# Altium integrated library Capacitor.IntLib: 342 symbols (part 1 of 2)
Pins are listed as number, name and electrical type; pins without a type are passive.

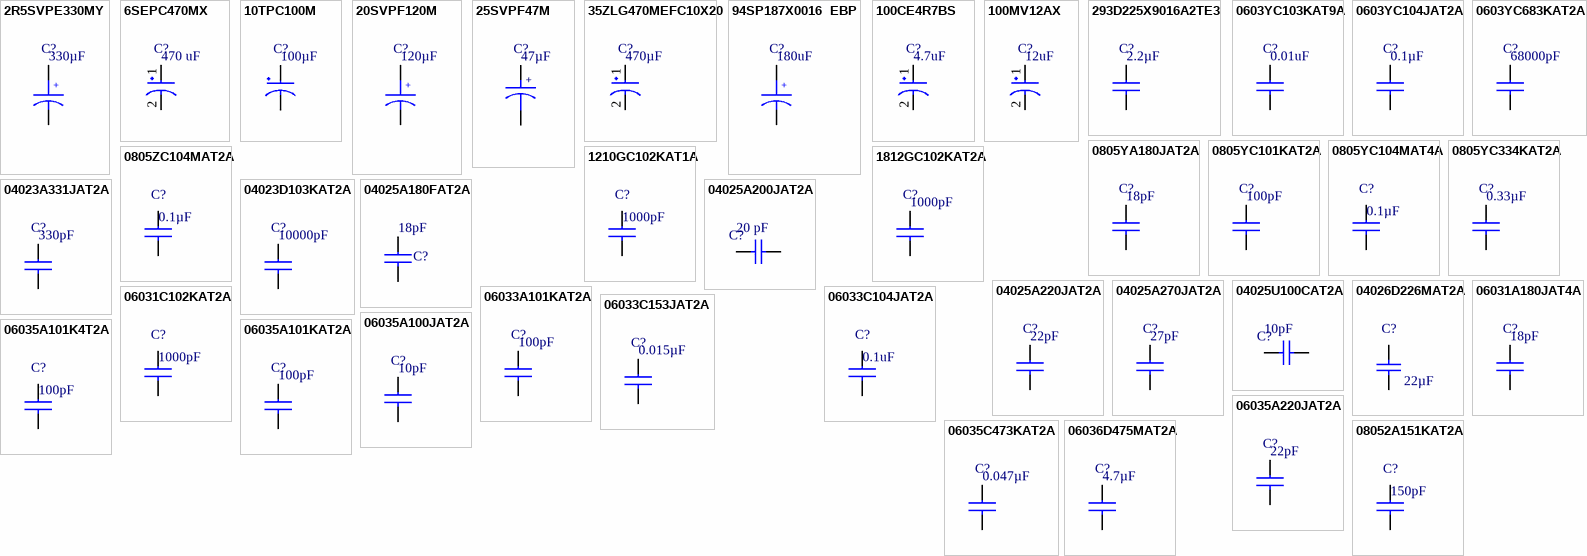
[diagram p0: symbols 2R5SVPE330MY to 08052A151KAT2A]

## 2R5SVPE330MY
designator C?  value 330µF  (hidden comment: *)
CAP POLYMER 330UF 20% 2.5V SMD; MPN: 2R5SVPE330MY; MFT: Panasonic Electronic Components; RATING: ±20%, 2.5V; TYPE: Surface Mount
footprint 2R5SVPE330MY
pins: 1, 2
text: +

## 6SEPC470MX
designator C?  value 470 uF  (hidden comment: *)
CAP POLYMER 470UF 20% 6.3V T/H; MPN: 6SEPC470MX; MFT: Panasonic; TYPE: Through-Hole; RATING: 6.3V
footprint 6SEPC470MX
pins: 1, 2

## 10TPC100M
designator C?  value 100µF  (hidden comment: *)
CAP TANT POLY 100UF 10V 2917; MPN: 10TPC100M; MFT: Panasonic Electronic Components; TYPE: Surface Mount; RATING: 10V
footprint C2917 (7343 Metric)
pins: 1, 2

## 20SVPF120M
designator C?  value 120µF  (hidden comment: *)
CAP POLYMER 120UF 20% 20V SMD; MPN: 20SVPF120M; MFT: Panasonic Electronic Components; RATING: ±20%, 20V; TYPE: Surface Mount
footprint 20SVPF120M
pins: 1, 2
text: +

## 25SVPF47M
designator C?  value 47µF  (hidden comment: *)
CAP POLYMER 47UF 20% 25V SMD; MPN: 25SVPF47M; MFT: Panasonic Electronic Components; TYPE: Surface Mount; RATING: 25V
footprint 25SVPF47M
pins: 1, 2
text: +

## 35ZLG470MEFC10X20
designator C?  value 470µF  (hidden comment: *)
CAP ALUM 470UF 20% 35V RADIAL; MPN: 35ZLG470MEFC10X20; MFT: Rubycon; TYPE: Through Hole; RATING: 35V
footprint 35ZLG470MEFC10X20
pins: 1, 2

## 94SP187X0016  EBP
designator C?  value 180uF  (hidden comment: *)
CAP, Oscon, 180uF, 16V; MPN: 94SP187X0016; MFT: Vishay; TYPE: Through-Hole; RATING: 16V
footprint 94SP187X0016  EBP
pins: 1, 2
text: +

## 100CE4R7BS
designator C?  value 4.7uF  (hidden comment: *)
CAP, 4.7uF 20% 100V ELEC; MPN: 100CE4R7BS; MFT: SANYO; TYPE: Surface Mount; RATING: 100V
footprint 100CE4R7BS
pins: 1, 2

## 100MV12AX
designator C?  value 12uF  (hidden comment: *)
Electrolytic100.0 V,12.0 µF,Electrolytic,Radial,105.0°C,6.3x11mm,; MPN: 100MV12AX; MFT: SANYO; RATING: 100V; TYPE: TH
footprint 100MV12AX
pins: 1, 2

## 293D225X9016A2TE3
designator C?  value 2.2µF  (hidden comment: *)
CAP TANT 2.2UF 16V 10% 1206; MPN: 293D225X9016A2TE3; TYPE: Surface Mount; MFT: Vishay Sprague; RATING: 16V
footprint C1206
pins: 1, 2

## 0603YC103KAT9A
designator C?  value 0.01uF  (hidden comment: *)
CAP CER 10000PF 16V X7R 0603; MPN: 0603YC103KAT9A; MFT: AVX Corporation; RATING: ±10%, 16V; TYPE: Surface Mount, MLCC
footprint C0603
pins: 1, 2

## 0603YC104JAT2A
designator C?  value 0.1µF  (hidden comment: *)
CAP CER 0.1UF 16V 5% X7R 0603; MPN: 0603YC104JAT2A; MFT: AVX Corporation; TYPE: Surface Mount, MLCC; RATING: 16V
footprint C0603
pins: 1, 2

## 0603YC683KAT2A
designator C?  value 68000pF  (hidden comment: *)
CAP CER 0.068UF 16V X7R 0603; MPN: 0603YC683KAT2A; MFT: AVX Corporation; RATING: 16V, ±10%; TYPE: Surface Mount, MLCC
footprint C0603
pins: 1, 2

## 0805YA180JAT2A
designator C?  value 18pF  (hidden comment: *)
CAP CER 18PF 16V 5% NP0 0805; MPN: 0805YA180JAT2A; MFT: AVX Corporation; TYPE: Surface Mount, MLCC; RATING: 16V 5% NP0
footprint C0805
pins: 1, 2

## 0805YC101KAT2A
designator C?  value 100pF  (hidden comment: *)
CAP CER 100PF 16V 10% X7R 0805; MPN: 0805YC101KAT2A; MFT: AVX Corporation; TYPE: Surface Mount, MLCC; RATING: 16V 10%
footprint C0805
pins: 1, 2

## 0805YC104MAT4A
designator C?  value 0.1µF  (hidden comment: *)
CAP CER 0.1UF 16V X7R 0805; MPN: 0805YC104MAT4A; MFT: AVX Corporation; TYPE: SMD; RATING: 16V; LOAD: *
footprint C0805
pins: 1, 2

## 0805YC334KAT2A
designator C?  value 0.33µF  (hidden comment: *)
CAP CER 0.33UF 16V 10% X7R 0805; MPN: 0805YC334KAT2A; MFT: AVX Corporation; TYPE: Surface Mount, MLCC; RATING: 16V 10% X7R
footprint C0805
pins: 1, 2

## 0805ZC104MAT2A
designator C?  value 0.1µF  (hidden comment: *)
CAP CER 0.1UF 10V X7R 0805; MPN: 0805ZC104MAT2A; MFT: AVX Corporation; TYPE: SMD; RATING: 10V; LOAD: *
footprint C0805
pins: 1, 2

## 1210GC102KAT1A
designator C?  value 1000pF  (hidden comment: *)
CAP CER 1000PF 2KV X7R 1210; MPN: 1210GC102KAT1A; MFT: AVX Corporation; TYPE: SMD; RATING: 2KV; LOAD: *
footprint C1210
pins: 1, 2

## 1812GC102KAT2A
designator C?  value 1000pF  (hidden comment: *)
CAP CER 1000PF 2KV X7R 1812; MPN: 1812GC102KAT2A; MFT: AVX Corporation; RATING: 2000V; TYPE: Surface Mount, MLCC
footprint C1812
pins: 1, 2

## 04023A331JAT2A
designator C?  value 330pF  (hidden comment: *)
CAP CER 330PF 25V NP0 0402; MPN: 04023A331JAT2A; MFT: AVX Corporation; TYPE: Surface Mount, MLCC; RATING: 25V
footprint C0402
pins: 1, 2

## 04023D103KAT2A
designator C?  value 10000pF  (hidden comment: *)
CAP CER 10000PF 25V X5R 0402; MPN: 04023D103KAT2A; MFT: AVX Corporation; TYPE: Surface Mount, MLCC; RATING: 25V
footprint C0402
pins: 1, 2

## 04025A180FAT2A
designator C?  value 18pF  (hidden comment: 04025A180FAT2A)
CAP CER 18PF 50V 1% NP0 0402; MFT: AVX Corporation; TYPE: Surface Mount, MLCC; MPN: 04025A180FAT2A; RATING: 50V
footprint C0402
pins: 1, 2

## 04025A200JAT2A
designator C?  value 20 pF  (hidden comment: *)
Multilayer Ceramic Capacitors MLCC - SMD/SMT 0402 20pF 50volts C0G 5%; MPN: 04025A200JAT2A; MFT: AVX; TYPE: Commercial Surface Mount Chip; RATING: 50volts 5%
footprint C0402
pins: 1, 2

## 04025A220JAT2A
designator C?  value 22pF  (hidden comment: *)
CAP CER 22PF 50V NP0 0402; MPN: 04025A220JAT2A; MFT: AVX Corporation; RATING: 50V, ±5%; TYPE: Surface Mount, MLCC
footprint C0402
pins: 1, 2

## 04025A270JAT2A
designator C?  value 27pF  (hidden comment: *)
CAP CER 27PF 50V NP0 0402; MPN: 04025A270JAT2A; MFT: AVX Corporation; RATING: ±5%, 50V; TYPE: Surface Mount, MLCC
footprint C0402
pins: 1, 2

## 04025U100CAT2A
designator C?  value 10pF  (hidden comment: *)
CAP CER 10PF 50V NP0 0402; MPN: 04025U100CAT2A; MFT: AVX Corporation; TYPE: Surface Mount, MLCC; RATING: 50V
footprint C0402
pins: 1, 2

## 04026D226MAT2A
designator C?  value 22µF  (hidden comment: *)
CAP CER 22UF 6.3V X5R 0402; MPN: 04026D226MAT2A; MFT: AVX Corporation; TYPE: Surface Mount, MLCC; RATING: 6.3V
footprint C0402
pins: 1, 2

## 06031A180JAT4A
designator C?  value 18pF  (hidden comment: *)
CAP CER 18PF 100V NP0 0603; MPN: 06031A180JAT4A; MFT: AVX Corporation; RATING: ±5%, 100V; TYPE: Surface Mount, MLCC
footprint C0603
pins: 1, 2

## 06031C102KAT2A
designator C?  value 1000pF  (hidden comment: *)
CAP CER 1000PF 100V X7R 0603; MPN: 06031C102KAT2A; MFT: AVX Corporation; TYPE: SMD; RATING: 100V; LOAD: *
footprint C0603
pins: 1, 2

## 06033A101KAT2A
designator C?  value 100pF  (hidden comment: *)
CAP CER 100PF 25V 10% NP0 0603; MPN: 06033A101KAT2A; MFT: AVX Corporation; TYPE: Surface Mount, MLCC; RATING: 25V
footprint C0603
pins: 1, 2

## 06033C104JAT2A
designator C?  value 0.1uF  (hidden comment: *)
CAP CER 0.1UF 25V X7R 0603; MPN: 06033C104JAT2A; MFT: Kyocera AVX; TYPE: SMD; RATING: 25V; LOAD: *
footprint C0603
pins: 1, 2

## 06033C153JAT2A
designator C?  value 0.015µF  (hidden comment: *)
CAP CER 0.015UF 25V X7R 0603; MPN: 06033C153JAT2A; MFT: AVX; TYPE: Surface Mount, MLCC; RATING: 25V
footprint C0603
pins: 1, 2

## 06035A100JAT2A
designator C?  value 10pF  (hidden comment: *)
CAP CER 10PF 50V 5% NP0 0603; MPN: 06035A100JAT2A; MFT: AVX Corporation; TYPE: Surface Mount, MLCC; RATING: 50V
footprint C0603
pins: 1, 2

## 06035A101K4T2A
designator C?  value 100pF  (hidden comment: *)
CAP CER 100PF 50V NP0 0603; MPN: 06035A101K4T2A; MFT: AVX Corporation; TYPE: SMD; RATING: 50V; LOAD: *
footprint C0603
pins: 1, 2

## 06035A101KAT2A
designator C?  value 100pF  (hidden comment: *)
CAP CER 100PF 50V NP0 0603; MPN: 06035A101KAT2A; MFT: AVX Corporation; RATING: ±10%, 50V; TYPE: Surface Mount, MLCC
footprint C0603
pins: 1, 2

## 06035A220JAT2A
designator C?  value 22pF  (hidden comment: *)
CAP CER 22PF 50V NP0 0603; MPN: 06035A220JAT2A; MFT: AVX Corporation; TYPE: Surface Mount, MLCC; RATING: 50V
footprint C0603
pins: 1, 2

## 06035C473KAT2A
designator C?  value 0.047µF  (hidden comment: *)
CAP CER 0.047UF 50V X7R 0603; MPN: 06035C473KAT2A; MFT: AVX Corporation; RATING: ±10%, 50V; TYPE: Surface Mount
footprint C0603
pins: 1, 2

## 06036D475MAT2A
designator C?  value 4.7µF  (hidden comment: *)
CAP CER 4.7UF 6.3V X5R 0603; MPN: 06036D475MAT2A; MFT: AVX Corporation; RATING: ±20%, 6.3V; TYPE: Surface Mount, MLCC
footprint C0603
pins: 1, 2

## 08052A151KAT2A
designator C?  value 150pF  (hidden comment: *)
CAP CER 150PF 200V NP0 0805; MPN: 08052A151KAT2A; MFT: AVX Corporation; TYPE: SMD; RATING: 200V; LOAD: *
footprint C0805
pins: 1, 2

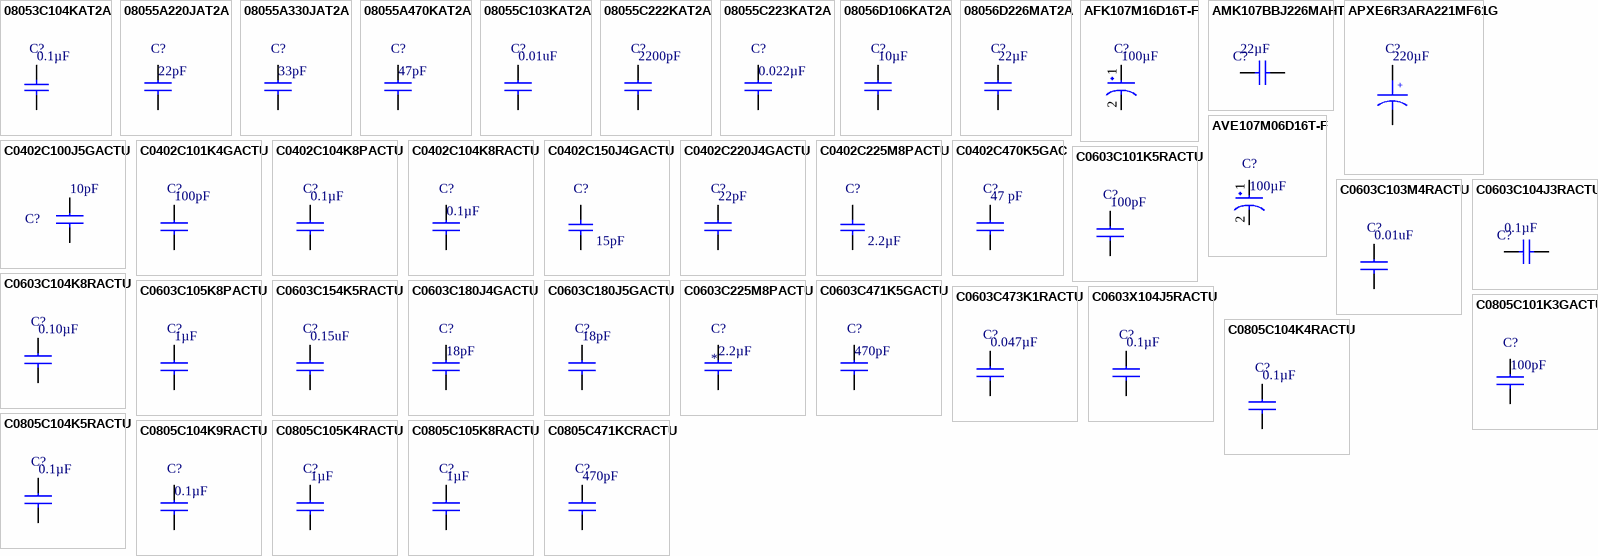
[diagram p1: symbols 08053C104KAT2A to C0805C471KCRACTU]

## 08053C104KAT2A
designator C?  value 0.1µF  (hidden comment: *)
CAP CER 0.1UF 25V X7R 0805; MPN: 08053C104KAT2A; MFT: AVX Corporation; RATING: ±10%, 25V; TYPE: Surface Mount, MLCC
footprint C0805
pins: 1, 2

## 08055A220JAT2A
designator C?  value 22pF  (hidden comment: *)
CAP CER 22PF 50V C0G/NP0 0805; MPN: 08055A220JAT2A; MFT: Kyocera AVX; TYPE: SMD; LOAD: *; RATING: 50V
footprint C0805
pins: 1, 2

## 08055A330JAT2A
designator C?  value 33pF  (hidden comment: *)
CAP CER 33PF 50V C0G/NP0 0805; MPN: 08055A330JAT2A; MFT: Kyocera AVX; TYPE: SMD; LOAD: *; RATING: 50V
footprint C0805
pins: 1, 2

## 08055A470KAT2A
designator C?  value 47pF  (hidden comment: *)
CAP CER 47PF 50V NP0 0805; MPN: 08055A470KAT2A; MFT: AVX Corporation; TYPE: SMD; RATING: 50V; LOAD: *
footprint C0805
pins: 1, 2

## 08055C103KAT2A
designator C?  value 0.01uF  (hidden comment: *)
CAP CER 10000PF 50V X7R 0805; MPN: 08055C103KAT2A; MFT: AVX Corporation; RATING: ±10%, 50V; TYPE: Surface Mount, MLCC
footprint C0805
pins: 1, 2

## 08055C222KAT2A
designator C?  value 2200pF  (hidden comment: *)
CAP CER 2200PF 50V 10% X7R 0805; MPN: 08055C222KAT2A; MFT: AVX Corporation; TYPE: Surface Mount, MLCC; RATING: 50V 10% X7R
footprint C0805
pins: 1, 2

## 08055C223KAT2A
designator C?  value 0.022µF  (hidden comment: *)
CAP CER 0.022UF 50V X7R 0805; MPN: 08055C223KAT2A; MFT: AVX Corporation; TYPE: SMD; RATING: 50V; LOAD: *
footprint C0805
pins: 1, 2

## 08056D106KAT2A
designator C?  value 10µF  (hidden comment: *)
CAP CER 10UF 6.3V X5R 0805; MPN: 08056D106KAT2A; MFT: AVX Corporation; RATING: ±10%, 6.3V; TYPE: Surface Mount, MLCC
footprint C0805
pins: 1, 2

## 08056D226MAT2A
designator C?  value 22µF  (hidden comment: *)
CAP CER 22UF 6.3V X5R 0805; MPN: 08056D226MAT2A; MFT: AVX Corporation; RATING: ±20%, 6.3V; TYPE: Surface Mount, MLCC
footprint C0805
pins: 1, 2

## AFK107M16D16T-F
designator C?  value 100µF  (hidden comment: *)
CAP ALUM 100UF 20% 16V SMD; MPN: AFK107M16D16T-F; TYPE: Surface Mount; MFT: Cornell Dubilier Electronics (CDE); RATING: 16V
footprint AFK107M16D16T-F
pins: 1, 2

## AMK107BBJ226MAHT
designator C?  value 22µF  (hidden comment: *)
CAP CER 22UF 4V 20% X5R 0603; MPN: AMK107BBJ226MAHT; MFT: Taiyo Yuden; TYPE: Surface Mount, MLCC; RATING: 4V
footprint C0603
pins: 1, 2

## APXE6R3ARA221MF61G
designator C?  value 220µF  (hidden comment: *)
CAP POLYMER 220UF 20% 6.3V SMD; MPN: APXE6R3ARA221MF61G; MFT: United Chemi-Con; RATING: ±20%, 6.3V; TYPE: Surface Mount
footprint APXE6R3ARA221MF61G
pins: 1, 2
text: +

## AVE107M06D16T-F
designator C?  value 100µF  (hidden comment: *)
CAP ALUM 100UF 20% 6.3V SMD; MPN: AVE107M06D16T-F; MFT: Cornell Dubilier Electronics (CDE); TYPE: SMD; RATING: 20% 6.3V; LOAD: *
footprint AVE107M06D16T-F
pins: 1, 2

## C0402C100J5GACTU
designator C?  value 10pF  (hidden comment: C0402C100J5GACTU)
CAP CER 10PF 50V 5% NP0 0402; MFT: Kemet; TYPE: Surface Mount, MLCC; MPN: C0402C100J5GACTU; RATING: 50V
footprint C0402
pins: 1, 2

## C0402C101K4GACTU
designator C?  value 100pF  (hidden comment: *)
CAP CER 100PF 16V 10% NP0 0402; MPN: C0402C101K4GACTU; MFT: Kemet; TYPE: Surface Mount, MLCC; RATING: 16V 10%
footprint C0402
pins: 1, 2

## C0402C104K8PACTU
designator C?  value 0.1µF  (hidden comment: *)
CAP CER 0.1UF 10V X5R 0402; MPN: C0402C104K8PACTU; MFT: Kemet; RATING: ±10%, 10V; TYPE: Surface Mount, MLCC
footprint C0402
pins: 1, 2

## C0402C104K8RACTU
designator C?  value 0.1µF  (hidden comment: *)
CAP CER 0.1UF 10V X7R 0402; MPN: C0402C104K8RACTU; MFT: KEMET; TYPE: SMD; LOAD: *; RATING: 10V
footprint C0402
pins: 1, 2

## C0402C150J4GACTU
designator C?  value 15pF  (hidden comment: *)
CAP CER 15PF 16V NP0 0402; MPN: C0402C150J4GACTU; MFT: Kemet; TYPE: Surface Mount; RATING: 16V; LOAD: *
footprint C0402
pins: 1, 2

## C0402C220J4GACTU
designator C?  value 22pF  (hidden comment: *)
CAP CER 22PF 16V 5% NP0 0402; MPN: C0402C220J4GACTU; MFT: Kemet; TYPE: Surface Mount, MLCC; RATING: 16V
footprint C0402
pins: 1, 2

## C0402C225M8PACTU
designator C?  value 2.2µF  (hidden comment: *)
CAP CER 2.2UF 10V 20% X5R 0402; MPN: C0402C225M8PACTU; MFT: Kemet; TYPE: Surface Mount; RATING: 10V
footprint C0402
pins: 1, 2

## C0402C470K5GAC
designator C?  value 47 pF  (hidden comment: *)
Multilayer Ceramic Capacitors MLCC - SMD/SMT 50volts 47pF 10% C0G; MPN: C0402C470K5GAC; MFT: Kemet; TYPE: Surface Mount; RATING: 50V
footprint C0402
pins: 1, 2

## C0603C101K5RACTU
designator C?  value 100pF  (hidden comment: *)
CAP CER 100PF 50V X7R 0603; MPN: C0603C101K5RACTU; MFT: Kemet; TYPE: Surface Mount, MLCC; RATING: 50V
footprint C0603
pins: 1, 2

## C0603C103M4RACTU
designator C?  value 0.01uF  (hidden comment: *)
CAP CER 10000PF 16V X7R 0603; MPN: C0603C103M4RACTU; MFT: Kemet; RATING: 16V, ±20%; TYPE: Surface Mount, MLCC
footprint C0603
pins: 1, 2

## C0603C104J3RACTU
designator C?  value 0.1µF  (hidden comment: *)
CAP CER 0.1UF 25V 5% X7R 0603; MPN: C0603C104J3RACTU; MFT: Kemet; TYPE: Surface Mount, MLCC; RATING: 25V
footprint C0603
pins: 1, 2

## C0603C104K8RACTU
designator C?  value 0.10µF  (hidden comment: *)
CAP CER 0.1UF 10V X7R 0603; MPN: C0603C104K8RACTU; MFT: Kemet; TYPE: Surface Mount, MLCC; RATING: 10V
footprint C0603
pins: 1, 2

## C0603C105K8PACTU
designator C?  value 1µF  (hidden comment: *)
CAP CER 1UF 10V X5R 0603; MPN: C0603C105K8PACTU; MFT: Kemet; RATING: ±10%, 10V; TYPE: Surface Mount, MLCC
footprint C0603
pins: 1, 2

## C0603C154K5RACTU
designator C?  value 0.15uF  (hidden comment: *)
Multilayer Ceramic Capacitors MLCC - SMD/SMT 50volts 0.15uF X7R 10%; MPN: C0603C154K5RACTU; MFT: Kemet; RATING: 10%, 50V; TYPE: Surface Mount
footprint C0603
pins: 1, 2

## C0603C180J4GACTU
designator C?  value 18pF  (hidden comment: *)
CAP CER 18PF 16V 5% NP0 0603; MPN: C0603C180J4GACTU; MFT: Kemet; RATING: 16V 5%; TYPE: SMD; LOAD: *
footprint C0603
pins: 1, 2

## C0603C180J5GACTU
designator C?  value 18pF  (hidden comment: *)
CAP CER 18PF 50V NP0 0603; MPN: C0603C180J5GACTU; MFT: Kemet; RATING: ±5%, 50V; TYPE: Surface Mount, MLCC
footprint C0603
pins: 1, 2

## C0603C225M8PACTU
designator C?  value 2.2µF
CAP CER 2.2UF 10V X5R 0603; MPN: C0603C225M8PACTU; MFT: Kemet; TYPE: Surface Mount; RATING: 10V
footprint C0603
pins: 1, 2

## C0603C471K5GACTU
designator C?  value 470pF  (hidden comment: *)
CAP CER 470PF 50V NP0 0603; MPN: C0603C471K5GACTU; MFT: Kemet; TYPE: SMD; RATING: 50V; LOAD: *
footprint C0603
pins: 1, 2

## C0603C473K1RACTU
designator C?  value 0.047µF  (hidden comment: *)
CAP CER 0.047UF 100V X7R 0603; MPN: C0603C473K1RACTU; MFT: Kemet; TYPE: Surface Mount, MLCC; RATING: 100V
footprint C0603
pins: 1, 2

## C0603X104J5RACTU
designator C?  value 0.1µF  (hidden comment: *)
CAP CER 0.1UF 50V X7R 0603; MPN: C0603X104J5RACTU; MFT: Kemet; TYPE: Surface Mount, MLCC; RATING: 50V
footprint C0603
pins: 1, 2

## C0805C101K3GACTU
designator C?  value 100pF  (hidden comment: *)
CAP CER 100PF 25V 10% NP0 0805; MPN: C0805C101K3GACTU; MFT: Kemet; RATING: 25V 10%; TYPE: SMD; LOAD: *
footprint C0805
pins: 1, 2

## C0805C104K4RACTU
designator C?  value 0.1µF  (hidden comment: *)
CAP CER 0.1UF 16V 10% X7R 0805; MPN: C0805C104K4RACTU; MFT: Kemet; TYPE: Surface Mount, MLCC; RATING: 16V 10%
footprint C0805
pins: 1, 2

## C0805C104K5RACTU
designator C?  value 0.1µF  (hidden comment: *)
CAP CER 0.1UF 50V X7R 0805; MPN: C0805C104K5RACTU; MFT: Kemet; TYPE: Surface Mount, MLCC; RATING: 50V
footprint C0805
pins: 1, 2

## C0805C104K9RACTU
designator C?  value 0.1µF  (hidden comment: *)
CAP CER 0.1UF 6.3V X7R 0805; MPN: C0805C104K9RACTU; MFT: Kemet; TYPE: SMD; RATING: 6.3V X7R; LOAD: *
footprint C0805
pins: 1, 2

## C0805C105K4RACTU
designator C?  value 1µF  (hidden comment: *)
CAP CER 1UF 16V X7R 0805; MPN: C0805C105K4RACTU; MFT: Kemet; TYPE: Surface Mount, MLCC; RATING: 16V
footprint C0805
pins: 1, 2

## C0805C105K8RACTU
designator C?  value 1µF  (hidden comment: *)
CAP CER 1UF 10V 10% X7R 0805; MPN: C0805C105K8RACTU; MFT: Kemet; TYPE: Surface Mount, MLCC; RATING: 10V 10%
footprint C0805
pins: 1, 2

## C0805C471KCRACTU
designator C?  value 470pF  (hidden comment: *)
CAP CER 470PF 500V 10% X7R 0805; MPN: C0805C471KCRACTU; MFT: Kemet; TYPE: Surface Mount, MLCC; RATING: 500V 10% X7R
footprint C0805
pins: 1, 2

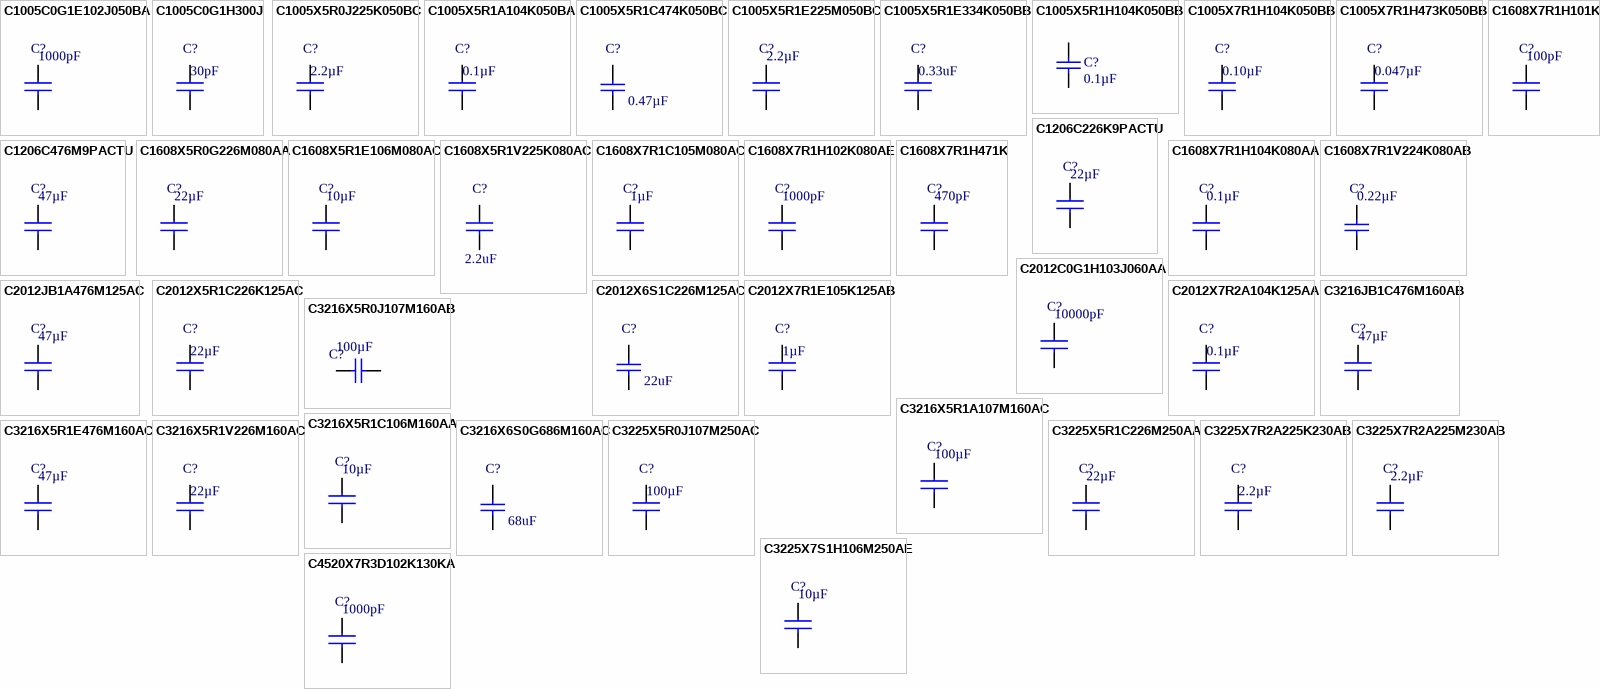
[diagram p2: symbols C1005C0G1E102J050BA to C4520X7R3D102K130KA]

## C1005C0G1E102J050BA
designator C?  value 1000pF  (hidden comment: *)
CAP CER 1000PF 25V C0G 0402; MPN: C1005C0G1E102J050BA; MFT: TDK Corporation; TYPE: Surface Mount, MLCC; RATING: 25V
footprint C0402
pins: 1, 2

## C1005C0G1H300J
designator C?  value 30pF  (hidden comment: *)
CAP CER 30PF 50V C0G 0402; MPN: C1005C0G1H300J; MFT: TDK Corporation; TYPE: SMD; RATING: 50V C0G; LOAD: *
footprint C0402
pins: 1, 2

## C1005X5R0J225K050BC
designator C?  value 2.2µF  (hidden comment: *)
CAP CER 2.2UF 6.3V X5R 0402; MPN: C1005X5R0J225K050BC; MFT: TDK Corporation; TYPE: SMD; RATING: 6.3V X5R; LOAD: *
footprint C0402
pins: 1, 2

## C1005X5R1A104K050BA
designator C?  value 0.1µF  (hidden comment: *)
CAP CER 0.1UF 10V X5R 0402; MPN: C1005X5R1A104K050BA; MFT: TDK; TYPE: SMD; RATING: 10V; LOAD: *
footprint C0402
pins: 1, 2

## C1005X5R1C474K050BC
designator C?  value 0.47µF  (hidden comment: *)
CAP CER 0.47UF 16V X5R 0402; MPN: C1005X5R1C474K050BC; MFT: TDK Corporation; TYPE: Surface Mount, MLCC; RATING: 16V
footprint C0402
pins: 1, 2

## C1005X5R1E225M050BC
designator C?  value 2.2µF  (hidden comment: *)
CAP CER 2.2UF 25V X5R 0402; MPN: C1005X5R1E225M050BC; MFT: TDK Corporation; TYPE: Surface Mount, MLCC; RATING: 25V
footprint C0402
pins: 1, 2

## C1005X5R1E334K050BB
designator C?  value 0.33uF  (hidden comment: *)
CAP CER 0.33UF 25V X5R 0402; MPN: C1005X5R1E334K050BB; MFT: TDK Corporation; TYPE: SMD; LOAD: *; RATING: 25V
footprint C0402
pins: 1, 2

## C1005X5R1H104K050BB
designator C?  value 0.1µF  (hidden comment: C1005X5R1H104K050BB)
CAP CER 0.1UF 50V 10% X5R 0402; MFT: TDK Corporation; TYPE: Surface Mount, MLCC; MPN: C1005X5R1H104K050BB; RATING: 50V
footprint C0402
pins: 1, 2

## C1005X7R1H104K050BB
designator C?  value 0.10µF  (hidden comment: *)
CAP CER 0.1UF 50V X7R 0402; MPN: C1005X7R1H104K050BB; MFT: TDK Corporation; TYPE: SMD; RATING: 50V; LOAD: *
footprint C0402
pins: 1, 2

## C1005X7R1H473K050BB
designator C?  value 0.047µF  (hidden comment: *)
CAP CER 0.047UF 50V X7R 0402; MPN: C1005X7R1H473K050BB; MFT: TDK Corporation; TYPE: SMD; RATING: 50V; LOAD: *
footprint C0402
pins: 1, 2

## C1206C226K9PACTU
designator C?  value 22µF  (hidden comment: *)
CAP CER 22UF 6.3V X5R 1206; MPN: C1206C226K9PACTU; MFT: Kemet; RATING: ±10%, 6.3V; TYPE: Surface Mount, MLCC
footprint C1206
pins: 1, 2

## C1206C476M9PACTU
designator C?  value 47µF  (hidden comment: *)
CAP CER 47UF 6.3V 20% X5R 1206; MPN: C1206C476M9PACTU; MFT: Kemet; TYPE: Surface Mount; RATING: 6.3V
footprint C1206
pins: 1, 2

## C1608X5R0G226M080AA
designator C?  value 22µF  (hidden comment: *)
CAP CER 22UF 4V X5R 0603; MPN: C1608X5R0G226M080AA; MFT: TDK Corporation; RATING: ±20%, 4V; TYPE: Surface Mount, MLCC
footprint C0603
pins: 1, 2

## C1608X5R1E106M080AC
designator C?  value 10µF  (hidden comment: *)
CAP CER 10UF 25V X5R 0603; MPN: C1608X5R1E106M080AC; MFT: TDK Corporation; TYPE: Surface Mount, MLCC; RATING: 25V
footprint C0603
pins: 1, 2

## C1608X5R1V225K080AC
designator C?  value 2.2uF  (hidden comment: *)
CAP CER 2.2UF 35V X5R 0603; MPN: C1608X5R1V225K080AC; MFT: TDK Corporation; TYPE: SMD; RATING: 35V; LOAD: *
footprint C0603
pins: 1, 2

## C1608X7R1C105M080AC
designator C?  value 1µF  (hidden comment: *)
CAP CER 1UF 16V X7R 0603; MPN: C1608X7R1C105M080AC; MFT: TDK Corporation; TYPE: Surface Mount, MLCC; RATING: 16V
footprint C0603
pins: 1, 2

## C1608X7R1H101K
designator C?  value 100pF  (hidden comment: *)
CAP CER 100PF 50V X7R 0603; MPN: C1608X7R1H101K; MFT: TDK Corporation; TYPE: Surface Mount, MLCC; RATING: 50V
footprint C0603
pins: 1, 2

## C1608X7R1H102K080AE
designator C?  value 1000pF  (hidden comment: *)
CAP CER 1000PF 50V X7R 0603; MPN: C1608X7R1H102K080AE; MFT: TDK Corporation; TYPE: Surface Mount, MLCC; RATING: 50V
footprint C0603
pins: 1, 2

## C1608X7R1H104K080AA
designator C?  value 0.1µF  (hidden comment: *)
CAP CER 0.1UF 50V X7R 0603; MPN: C1608X7R1H104K080AA; MFT: TDK Corporation; TYPE: Surface Mount, MLCC; RATING: 50V
footprint C0603
pins: 1, 2

## C1608X7R1H471K
designator C?  value 470pF  (hidden comment: *)
CAP CER 470PF 50V X7R 0603; MPN: C1608X7R1H471K; MFT: TDK Corporation; TYPE: Surface Mount, MLCC; RATING: 50V
footprint C0603
pins: 1, 2

## C1608X7R1V224K080AB
designator C?  value 0.22µF  (hidden comment: *)
CAP CER 0.22UF 35V X7R 0603; MPN: C1608X7R1V224K080AB; MFT: TDK Corporation; TYPE: Surface Mount, MLCC; RATING: 35V
footprint C0603
pins: 1, 2

## C2012C0G1H103J060AA
designator C?  value 10000pF  (hidden comment: *)
CAP CER 10000PF 50V C0G 0805; MPN: C2012C0G1H103J060AA; MFT: TDK Corporation; RATING: ±5%, 50V; TYPE: Surface Mount, MLCC
footprint C0805
pins: 1, 2

## C2012JB1A476M125AC
designator C?  value 47µF  (hidden comment: *)
CAP CER 47UF 10V 20% JB 0805; MPN: C2012JB1A476M125AC; MFT: TDK Corporation; TYPE: Surface Mount, MLCC; RATING: 10V 20%
footprint C0805
pins: 1, 2

## C2012X5R1C226K125AC
designator C?  value 22µF  (hidden comment: *)
CAP CER 22UF 16V X5R 0805; MPN: C2012X5R1C226K125AC; MFT: TDK Corporation; TYPE: SMD; RATING: 16V; LOAD: *
footprint C0805
pins: 1, 2

## C2012X6S1C226M125AC
designator C?  value 22uF  (hidden comment: *)
22µF ±20% 16V X6S Ceramic Capacitor -55°C ~ 105°C Surface Mount, MLCC 0805 (2012 Metric) 0.079" L x 0.049" W (2.00mm x 1.25mm); MPN: C2012X6S1C226M125AC; MFT: TDK; TYPE: SMD; LOAD: *; RATING: 16V
footprint C0805
pins: 1, 2

## C2012X7R1E105K125AB
designator C?  value 1µF  (hidden comment: *)
CAP CER 1UF 25V X7R 0805; MPN: C2012X7R1E105K125AB; MFT: TDK Corporation; TYPE: SMD; RATING: 25V; LOAD: *
footprint C0805
pins: 1, 2

## C2012X7R2A104K125AA
designator C?  value 0.1µF  (hidden comment: *)
CAP CER 0.1UF 100V X7R 0805; MPN: C2012X7R2A104K125AA; MFT: TDK Corporation; TYPE: SMD; RATING: 100V; LOAD: *
footprint C0805
pins: 1, 2

## C3216JB1C476M160AB
designator C?  value 47µF  (hidden comment: *)
CAP CER 47UF 16V 20% JB 1206; MPN: C3216JB1C476M160AB; MFT: TDK Corporation; TYPE: Surface Mount, MLCC; RATING: 16V 20%
footprint C1210
pins: 1, 2

## C3216X5R0J107M160AB
designator C?  value 100µF  (hidden comment: *)
CAP CER 100UF 6.3V 20% X5R 1206; MPN: C3216X5R0J107M160AB; MFT: TDK Corporation; TYPE: Surface Mount, MLCC; RATING: 6.3V
footprint C1206
pins: 1, 2

## C3216X5R1A107M160AC
designator C?  value 100µF  (hidden comment: *)
CAP CER 100UF 10V 20% X5R 1206; MPN: C3216X5R1A107M160AC; MFT: TDK Corporation; TYPE: Surface Mount, MLCC; RATING: 10V 20% X5R
footprint C1206
pins: 1, 2

## C3216X5R1C106M160AA
designator C?  value 10µF  (hidden comment: *)
CAP CER 10UF 16V X5R 1206; MPN: C3216X5R1C106M160AA; MFT: TDK Corporation; RATING: ±20%, 16V; TYPE: Surface Mount, MLCC
footprint C1206
pins: 1, 2

## C3216X5R1E476M160AC
designator C?  value 47µF  (hidden comment: *)
CAP CER 47UF 25V X5R 1206; MPN: C3216X5R1E476M160AC; MFT: TDK Corporation; TYPE: Surface Mount, MLCC; RATING: 25V
footprint C1206
pins: 1, 2

## C3216X5R1V226M160AC
designator C?  value 22µF  (hidden comment: *)
CAP CER 22UF 35V X5R 1206; MPN: C3216X5R1V226M160AC; MFT: TDK; APN: CV-225350-C2-M; TYPE: SMD; LOAD: *; RATING: 35V
footprint CAPC3216X180N
pins: 1, 2

## C3216X6S0G686M160AC
designator C?  value 68uF  (hidden comment: *)
68µF ±20% 4V X6S Ceramic Capacitor -55°C ~ 105°C Surface Mount, MLCC 1206 (3216 Metric) 0.126" L x 0.063" W (3.20mm x 1.60mm); MPN: C3216X6S0G686M160AC; MFT: TDK; TYPE: SMD; LOAD: *; RATING: 4V
footprint C1206
pins: 1, 2

## C3225X5R0J107M250AC
designator C?  value 100µF  (hidden comment: *)
CAP CER 100UF 6.3V X5R 1210; MPN: C3225X5R0J107M250AC; MFT: TDK Corporation; TYPE: SMD; RATING: 6.3V; LOAD: *
footprint C1210
pins: 1, 2

## C3225X5R1C226M250AA
designator C?  value 22µF  (hidden comment: *)
CAP CER 22UF 16V X5R 1210; MPN: C3225X5R1C226M250AA; MFT: TDK Corporation; RATING: ±20%, 16V; TYPE: Surface Mount, MLCC
footprint C1210
pins: 1, 2

## C3225X7R2A225K230AB
designator C?  value 2.2µF  (hidden comment: *)
CAP CER 2.2UF 100V X7R 1210; MPN: C3225X7R2A225K230AB; MFT: TDK Corporation; TYPE: SMD; RATING: 100V; LOAD: *
footprint C1210
pins: 1, 2

## C3225X7R2A225M230AB
designator C?  value 2.2µF  (hidden comment: *)
CAP CER 2.2UF 100V X7R 1210; MPN: C3225X7R2A225M230AB; MFT: TDK Corporation; TYPE: Surface Mount, MLCC; RATING: 100V
footprint C1210
pins: 1, 2

## C3225X7S1H106M250AE
designator C?  value 10µF  (hidden comment: *)
CAP CER 10UF 50V X7S 1210; MPN: C3225X7S1H106M250AE; MFT: TDK Corporation; TYPE: Surface Mount, MLCC; RATING: 50V
footprint C1210
pins: 1, 2

## C4520X7R3D102K130KA
designator C?  value 1000pF  (hidden comment: *)
CAP CER 1000PF 2KV X7R 1808; MPN: C4520X7R3D102K130KA; MFT: TDK Corporation; RATING: ±10%, 2000V (2kV); TYPE: Surface Mount, MLCC
footprint C1808
pins: 1, 2

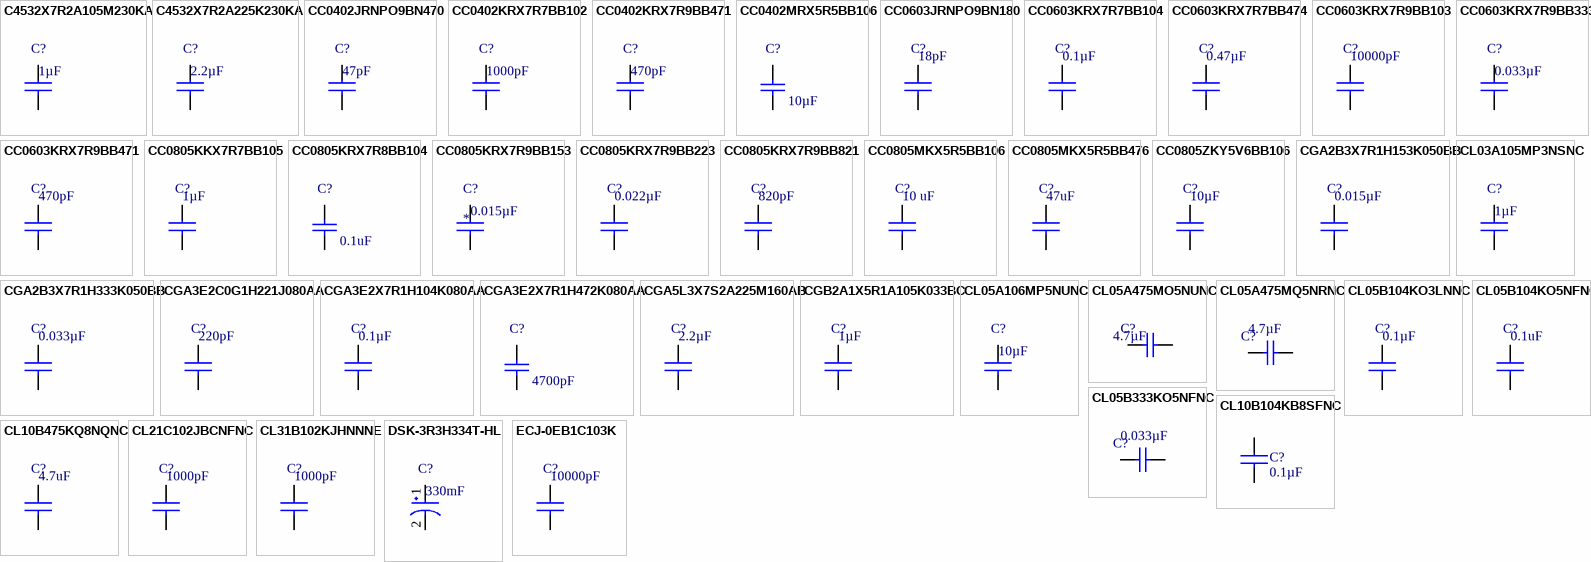
[diagram p3: symbols C4532X7R2A105M230KA to ECJ-0EB1C103K]

## C4532X7R2A105M230KA
designator C?  value 1µF  (hidden comment: *)
CAP CER 1UF 100V X7R 1812; MPN: C4532X7R2A105M230KA; MFT: TDK Corporation; TYPE: SMD; RATING: 100V; LOAD: *
footprint C1812
pins: 1, 2

## C4532X7R2A225K230KA
designator C?  value 2.2µF  (hidden comment: *)
CAP CER 2.2UF 100V X7R 1812; MPN: C4532X7R2A225K230KA; MFT: TDK Corporation; TYPE: SMD; RATING: 100V; LOAD: *
footprint C1812
pins: 1, 2

## CC0402JRNPO9BN470
designator C?  value 47pF  (hidden comment: *)
CAP CER 47PF 50V NPO 0402; MPN: CC0402JRNPO9BN470; MFT: Yageo; TYPE: SMD; RATING: 50V NPO; LOAD: *
footprint C0402
pins: 1, 2

## CC0402KRX7R7BB102
designator C?  value 1000pF  (hidden comment: *)
CAP CER 1000PF 16V X7R 0402; MPN: CC0402KRX7R7BB102; MFT: Yageo; TYPE: SMD; RATING: 16V X7R; LOAD: *
footprint C0402
pins: 1, 2

## CC0402KRX7R9BB471
designator C?  value 470pF  (hidden comment: *)
CAP CER 470PF 50V X7R 0402; MPN: CC0402KRX7R9BB471; MFT: Yageo; TYPE: SMD; RATING: 50V X7R; LOAD: *
footprint C0402
pins: 1, 2

## CC0402MRX5R5BB106
designator C?  value 10µF  (hidden comment: *)
CAP CER 10UF 6.3V 20% X5R 0402; MPN: CC0402MRX5R5BB106; MFT: Yageo; TYPE: Surface Mount; RATING: 6.3V
footprint C0402
pins: 1, 2

## CC0603JRNPO9BN180
designator C?  value 18pF  (hidden comment: *)
CAP CER 18PF 50V NPO 0603; MPN: CC0603JRNPO9BN180; MFT: Yageo; RATING: ±5%, 50V; TYPE: SMD
footprint C0603
pins: 1, 2

## CC0603KRX7R7BB104
designator C?  value 0.1µF  (hidden comment: *)
CAP CER 0.1UF 16V X7R 0603; MPN: CC0603KRX7R7BB104; MFT: Yageo; TYPE: Surface Mount, MLCC; RATING: 16V
footprint C0603
pins: 1, 2

## CC0603KRX7R7BB474
designator C?  value 0.47µF  (hidden comment: *)
CAP CER 0.47UF 16V X7R 0603; MPN: CC0603KRX7R7BB474; MFT: Yageo; TYPE: Surface Mount, MLCC; RATING: 16V
footprint C0603
pins: 1, 2

## CC0603KRX7R9BB103
designator C?  value 10000pF  (hidden comment: *)
CAP CER 10000PF 50V X7R 0603; MPN: CC0603KRX7R9BB103; MFT: Yageo; RATING: 50V, ±10%; TYPE: Surface Mount, MLCC
footprint C0603
pins: 1, 2

## CC0603KRX7R9BB333
designator C?  value 0.033µF  (hidden comment: *)
CAP CER 0.033UF 50V X7R 0603; MPN: CC0603KRX7R9BB333; MFT: Yageo; TYPE: SMD; RATING: 50V; LOAD: *
footprint C0603
pins: 1, 2

## CC0603KRX7R9BB471
designator C?  value 470pF  (hidden comment: *)
CAP CER 470PF 50V X7R 0603; MPN: CC0603KRX7R9BB471; MFT: Yageo; TYPE: Surface Mount, MLCC; RATING: 50V
footprint C0603
pins: 1, 2

## CC0805KKX7R7BB105
designator C?  value 1µF  (hidden comment: *)
CAP CER 1UF 16V 10% X7R 0805; MPN: CC0805KKX7R7BB105; MFT: Yageo; TYPE: Surface Mount, MLCC; RATING: 16V  10% X7R
footprint C0805
pins: 1, 2

## CC0805KRX7R8BB104
designator C?  value 0.1uF  (hidden comment: *)
CAP CER 0.1UF 25V X7R 0805; MPN: CC0805KRX7R8BB104; MFT: Yageo; TYPE: SMD; LOAD: *; RATING: 25V
footprint C0805
pins: 1, 2

## CC0805KRX7R9BB153
designator C?  value 0.015µF
CAP CER 0.015UF 50V X7R 0805; MPN: CC0805KRX7R9BB153; MFT: Yageo; TYPE: SMD; RATING: 50V; LOAD: *
footprint C0805
pins: 1, 2

## CC0805KRX7R9BB223
designator C?  value 0.022µF  (hidden comment: *)
CAP CER 0.022UF 50V X7R 0805; MPN: CC0805KRX7R9BB223; MFT: Yageo; TYPE: Surface Mount, MLCC; RATING: 50V
footprint C0805
pins: 1, 2

## CC0805KRX7R9BB821
designator C?  value 820pF  (hidden comment: *)
CAP CER 820PF 50V X7R 0805; MPN: CC0805KRX7R9BB821; MFT: Yageo; TYPE: Surface Mount, MLCC; RATING: 50V
footprint C0805
pins: 1, 2

## CC0805MKX5R5BB106
designator C?  value 10 uF  (hidden comment: *)
CAP CER 10UF 6.3V X5R 0805; MPN: CC0805MKX5R5BB106; MFT: Yageo; TYPE: SMD/SMT; RATING: 20 %
footprint C0805
pins: 1, 2

## CC0805MKX5R5BB476
designator C?  value 47uF  (hidden comment: *)
Multilayer Ceramic Capacitors MLCC - SMD/SMT 47uF 6.3V X5R 20%; MPN: CC0805MKX5R5BB476; RATING: 20%, 6.3V; MFT: Yageo; TYPE: Surface Mount
footprint C0805
pins: 1, 2

## CC0805ZKY5V6BB106
designator C?  value 10µF  (hidden comment: *)
CAP CER 10UF 10V Y5V 0805; MPN: CC0805ZKY5V6BB106; MFT: Yageo; TYPE: Surface Mount, MLCC; RATING: 10V Y5V
footprint C0805
pins: 1, 2

## CGA2B3X7R1H153K050BB
designator C?  value 0.015µF  (hidden comment: *)
CAP CER 0.015UF 50V X7R 0402; MPN: CGA2B3X7R1H153K050BB; MFT: TDK Corporation; TYPE: Surface Mount, MLCC; RATING: 50V
footprint C0402
pins: 1, 2

## CGA2B3X7R1H333K050BB
designator C?  value 0.033µF  (hidden comment: *)
CAP CER 0.033UF 50V X7R 0402; MPN: CGA2B3X7R1H333K050BB; MFT: TDK Corporation; TYPE: Surface Mount, MLCC; RATING: 50V
footprint C0402
pins: 1, 2

## CGA3E2C0G1H221J080AA
designator C?  value 220pF  (hidden comment: *)
CAP CER 220PF 50V C0G 0603; MPN: CGA3E2C0G1H221J080AA; MFT: TDK Corporation; RATING: ±5%, 50V; TYPE: Surface Mount, MLCC
footprint C0603
pins: 1, 2

## CGA3E2X7R1H104K080AA
designator C?  value 0.1µF  (hidden comment: *)
CAP CER 0.1UF 50V X7R 0603; MPN: CGA3E2X7R1H104K080AA; MFT: TDK; TYPE: Surface Mount, MLCC; RATING: 50V
footprint C0603
pins: 1, 2

## CGA3E2X7R1H472K080AA
designator C?  value 4700pF  (hidden comment: *)
CAP CER 4700PF 50V X7R 0603; MPN: CGA3E2X7R1H472K080AA; MFT: TDK Corporation; TYPE: Surface Mount, MLCC; RATING: 50V
footprint C0603
pins: 1, 2

## CGA5L3X7S2A225M160AB
designator C?  value 2.2µF  (hidden comment: *)
CAP CER 2.2UF 100V X7S 1206; MPN: CGA5L3X7S2A225M160AB; MFT: TDK Corporation; TYPE: Surface Mount, MLCC; RATING: 100V
footprint C1206
pins: 1, 2

## CGB2A1X5R1A105K033BC
designator C?  value 1µF  (hidden comment: *)
CAP CER 1UF 10V X5R 0402; MPN: CGB2A1X5R1A105K033BC; MFT: TDK Corporation; TYPE: Surface Mount, MLCC
footprint C0402
pins: 1, 2

## CL03A105MP3NSNC
designator C?  value 1µF  (hidden comment: *)
CAP CER 1UF 10V X5R 0201; MPN: CL03A105MP3NSNC; MFT: Samsung Electro-Mechanics America, Inc.; TYPE: SMD; RATING: 10V; LOAD: *
footprint C0201
pins: 1, 2

## CL05A106MP5NUNC
designator C?  value 10µF  (hidden comment: *)
CAP CER 10UF 10V X5R 0402; MPN: CL05A106MP5NUNC; MFT: Samsung Electro-Mechanics America, Inc.; TYPE: SMD; RATING: 10V X5R; LOAD: *
footprint C0402
pins: 1, 2

## CL05A475MO5NUNC
designator C?  value 4.7µF  (hidden comment: *)
CAP CER 4.7UF 16V X5R 0402; MPN: CL05A475MO5NUNC; MFT: Samsung Electro-Mechanics America, Inc.; TYPE: SMD; RATING: 16V; LOAD: *
footprint C0402
pins: 1, 2

## CL05A475MQ5NRNC
designator C?  value 4.7µF  (hidden comment: *)
CAP CER 4.7UF 6.3V 20% X5R 0402; MPN: CL05A475MQ5NRNC; MFT: Samsung Electro-Mechanics America, Inc; TYPE: Surface Mount, MLCC; RATING: 6.3V
footprint C0402
pins: 1, 2

## CL05B104KO3LNNC
designator C?  value 0.1µF  (hidden comment: *)
CAP CER 0.1UF 16V X7R 0402; MPN: CL05B104KO3LNNC; MFT: Samsung Electro-Mechanics America, Inc.; RATING: ±10%, 16V; TYPE: Surface Mount, MLCC
footprint C0402
pins: 1, 2

## CL05B104KO5NFNC
designator C?  value 0.1uF  (hidden comment: *)
CAP CER 0.1UF 16V X7R 0402; MPN: CL05B104KO5NFNC; MFT: Samsung Electro-Mechanics; TYPE: SMD; LOAD: *; RATING: 16V
footprint C0402
pins: 1, 2

## CL05B333KO5NFNC
designator C?  value 0.033µF  (hidden comment: *)
CAP CER 0.033UF 16V 10% X7R 0402; MPN: CL05B333KO5NFNC; MFT: Samsung Electro-Mechanics America, Inc; TYPE: Surface Mount, MLCC; RATING: 16V
footprint C0402
pins: 1, 2

## CL10B104KB8SFNC
designator C?  value 0.1µF  (hidden comment: CL10B104KB8SFNC)
CAP CER 0.1UF 50V 10% X7R 0603; MFT: Samsung Electro-Mechanics America, Inc; TYPE: Surface Mount, MLCC; MPN: CL10B104KB8SFNC; RATING: 50V
footprint C0603
pins: 1, 2

## CL10B475KQ8NQNC
designator C?  value 4.7uF  (hidden comment: *)
CAP CER 4.7UF 6.3V X7R 0603; MPN: CL10B475KQ8NQNC; MFT: Samsung Electro-Mechanics; TYPE: SMD; LOAD: *; RATING: 6.3V
footprint C0603
pins: 1, 2

## CL21C102JBCNFNC
designator C?  value 1000pF  (hidden comment: *)
CAP CER 1000PF 50V NP0 0805; MPN: CL21C102JBCNFNC; MFT: Samsung Electro-Mechanics America, Inc.; TYPE: Surface Mount, MLCC; RATING: 50V
footprint C0805
pins: 1, 2

## CL31B102KJHNNNE
designator C?  value 1000pF  (hidden comment: *)
CAP CER 1000PF 2KV X7R 1206; MPN: CL31B102KJHNNNE; MFT: Samsung Electro-Mechanics; TYPE: SMD; LOAD: *; RATING: 2KV
footprint C1206
pins: 1, 2

## DSK-3R3H334T-HL
designator C?  value 330mF  (hidden comment: *)
CAP 330MF -20% +80% 3.3V SMD; MPN: DSK-3R3H334T-HL; MFT: Elna; APN: CY-330M33A-X1-Z; RATING: 3.3V; LOAD: *; TYPE: SMD
footprint ELNA_DSK-3R3H334T-HL
pins: 1, 2

## ECJ-0EB1C103K
designator C?  value 10000pF  (hidden comment: *)
CAP CER 10000PF 16V X7R 0402; MPN: ECJ-0EB1C103K; MFT: Panasonic Electronic Components; RATING: ±10%, 16V; TYPE: Surface Mount, MLCC
footprint C0402
pins: 1, 2

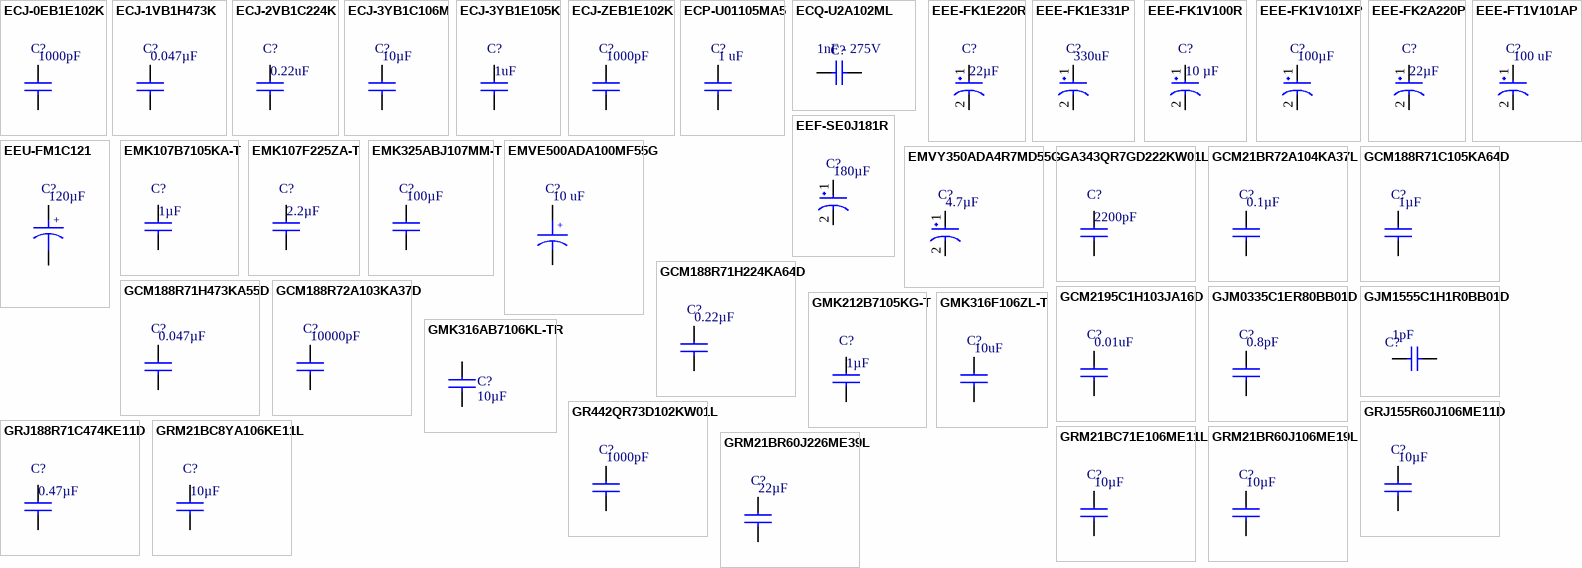
[diagram p4: symbols ECJ-0EB1E102K to GRM21BR60J226ME39L]

## ECJ-0EB1E102K
designator C?  value 1000pF  (hidden comment: *)
CAP CER 1000PF 25V X7R 0402; MPN: ECJ-0EB1E102K; MFT: Panasonic Electronic Components; RATING: ±10%, 25V; TYPE: Surface Mount, MLCC
footprint C0402
pins: 1, 2

## ECJ-1VB1H473K
designator C?  value 0.047µF  (hidden comment: *)
CAP CER 0.047UF 50V X7R 0603; MPN: ECJ-1VB1H473K; MFT: Panasonic Electronic Components; RATING: ±10%, 50V; TYPE: Surface Mount, MLCC
footprint C0603
pins: 1, 2

## ECJ-2VB1C224K
designator C?  value 0.22uF  (hidden comment: *)
CAP CER 0.22UF 16V X7R 0805; MPN: ECJ-2VB1C224K; MFT: Panasonic; TYPE: SMD; LOAD: *; RATING: 16V
footprint C0805
pins: 1, 2

## ECJ-3YB1C106M
designator C?  value 10µF  (hidden comment: *)
CAP CER 10UF 16V X5R 1206; MPN: ECJ-3YB1C106M; MFT: Panasonic Electronic Components; RATING: ±20%, 16V; TYPE: Surface Mount, MLCC
footprint C1206
pins: 1, 2

## ECJ-3YB1E105K
designator C?  value 1uF  (hidden comment: *)
CAP CER 1UF 25V X7R 1206; MPN: ECJ-3YB1E105K; MFT: Panasonic; TYPE: SMD; LOAD: *; RATING: 25V
footprint C1206
pins: 1, 2

## ECJ-ZEB1E102K
designator C?  value 1000pF  (hidden comment: *)
CAP CER 1000PF 25V X7R 0201; MPN: ECJ-ZEB1E102K; RATING: ±10% ,25V; TYPE: Surface Mount, MLCC; MFT: Panasonic
footprint C0201
pins: 1, 2

## ECP-U01105MA5
designator C?  value 1 uF  (hidden comment: *)
Film Capacitors 1.0uF 10VDC 20% METAL PLASTIC; MPN: ECP-U01105MA5; MFT: Panasonic; TYPE: SMD/SMT; RATING: 10 V, 20 %
footprint ECP-U01105MA5
pins: 1, 2

## ECQ-U2A102ML
designator C?, comment value 1nF - 275V  (hidden comment: Capacitor Ceramic)
Film Capacitors .001UF 250/275VAC ECQ-UL; MPN: Panasonic; RATING: 275V; MFT: ECQ-U2A102ML; TYPE: Through Hole
footprint RAD-15L-5W-12.5LS (Radial 15L 5W 12.5LS)
pins: 1, 2

## EEE-FK1E220R
designator C?  value 22µF  (hidden comment: *)
CAP ALUM 22UF 20% 25V SMD; MPN: EEE-FK1E220R; MFT: Panasonic Electronic Components; TYPE: SMD; RATING: 25V; LOAD: *
footprint EEE-FK1E220R
pins: 1, 2

## EEE-FK1E331P
designator C?  value 330uF  (hidden comment: *)
CAP ALUM 330UF 20% 25V SMD; MPN: EEE-FK1E331P; MFT: Panasonic Electronic Components; TYPE: SMD; RATING: 25V; LOAD: *
footprint EEE-FK1E331P
pins: 1, 2

## EEE-FK1V100R
designator C?  value 10 µF  (hidden comment: *)
CAP ALUM 10UF 20% 35V SMD; MPN: EEE-FK1V100R; MFT: Panasonic; RATING: 35V; LOAD: *; TYPE: SMD
footprint EEE-FK1V100R
pins: 1, 2

## EEE-FK1V101XP
designator C?  value 100µF  (hidden comment: *)
CAP ALUM 100UF 20% 35V SMD; MPN: EEE-FK1V101XP; MFT: Panasonic Electronic Components; TYPE: Surface Mount; RATING: 35V
footprint EEE-FK1V101XP
pins: 1, 2

## EEE-FK2A220P
designator C?  value 22µF  (hidden comment: *)
CAP ALUM 22UF 20% 100V SMD; MPN: EEE-FK2A220P; MFT: Panasonic Electronic Components; TYPE: SMD; RATING: 100V; LOAD: *
footprint EEE-FK2A220P
pins: 1, 2

## EEE-FT1V101AP
designator C?  value 100 uF  (hidden comment: *)
Aluminum Electrolytic Capacitors - SMD 100uF 35volts 6.3x5.8mm SMD; MPN: EEE-FT1V101AP; MFT: Panasonic; TYPE: SMD/SMT; RATING: 20 %, 35 V
footprint EEE-FT1V101AP
pins: 1, 2

## EEF-SE0J181R
designator C?  value 180µF  (hidden comment: *)
CAP POLYMER 180UF 20% 6.3V SMD; MPN: EEF-SE0J181R; MFT: Panasonic Electronic Components; RATING: 6.3V, ±20%; TYPE: Surface Mount
footprint C2917
pins: 1, 2

## EEU-FM1C121
designator C?  value 120µF  (hidden comment: *)
CAP ALUM 120UF 20% 16V RADIAL; MPN: EEU-FM1C121; TYPE: Through Hole; MFT: Panasonic Electronic Components; RATING: 16V
footprint EEU-FM1C121
pins: 1, 2
text: +

## EMK107B7105KA-T
designator C?  value 1µF  (hidden comment: *)
CAP CER 1UF 16V X7R 0603; MPN: EMK107B7105KA-T; MFT: Taiyo Yuden; TYPE: SMD; RATING: 16V; LOAD: *
footprint C0603
pins: 1, 2

## EMK107F225ZA-T
designator C?  value 2.2µF  (hidden comment: *)
CAP CER 2.2UF 16V Y5V 0603; MPN: EMK107F225ZA-T; MFT: Taiyo Yuden; TYPE: SMD; RATING: 16V
footprint C0603
pins: 1, 2

## EMK325ABJ107MM-T
designator C?  value 100µF  (hidden comment: *)
CAP CER 100UF 16V 20% X5R 1210; MPN: EMK325ABJ107MM-T; MFT: Taiyo Yuden; TYPE: Surface Mount, MLCC; RATING: 16V 20%
footprint C1210
pins: 1, 2

## EMVE500ADA100MF55G
designator C?  value 10 uF  (hidden comment: *)
Aluminum Electrolytic Capacitors - SMD 50volts 10uF 6.3X5.2; MPN: EMVE500ADA100MF55G; MFT: United Chemi-Con; TYPE: SMD/SMT; RATING: 50 V
footprint EMVE500ADA100MF55G
pins: 1, 2
text: +

## EMVY350ADA4R7MD55G
designator C?  value 4.7µF  (hidden comment: *)
CAP ALUM 4.7UF 20% 35V SMD; MPN: EMVY350ADA4R7MD55G; MFT: United Chemi-Con; TYPE: Surface Mount; RATING: 35V
footprint EMVY350ADA4R7MD55G
pins: 1, 2

## GA343QR7GD222KW01L
designator C?  value 2200pF  (hidden comment: *)
CAP CER 2200PF 250VAC X7R 1812; MPN: GA343QR7GD222KW01L; MFT: Murata Electronics North America; TYPE: SMD; RATING: 250VAC; LOAD: *
footprint C1812
pins: 1, 2

## GCM21BR72A104KA37L
designator C?  value 0.1µF  (hidden comment: *)
CAP CER 0.1UF 100V X7R 0805; MPN: GCM21BR72A104KA37L; MFT: Murata Electronics North America; TYPE: Surface Mount, MLCC; RATING: 100V
footprint C0805
pins: 1, 2

## GCM188R71C105KA64D
designator C?  value 1µF  (hidden comment: *)
CAP CER 1UF 16V 10% X7R 0603; MPN: GCM188R71C105KA64D; MFT: Murata Electronics North America; TYPE: SMD; LOAD: *; RATING: 16V 10% X7R
footprint C0603
pins: 1, 2

## GCM188R71H224KA64D
designator C?  value 0.22µF  (hidden comment: *)
CAP CER 0.22UF 50V X7R 0603; MPN: GCM188R71H224KA64D; MFT: Murata Electronics North America; TYPE: Surface Mount, MLCC; RATING: 50V
footprint C0603
pins: 1, 2

## GCM188R71H473KA55D
designator C?  value 0.047µF  (hidden comment: *)
CAP CER 0.047UF 50V X7R 0603; MPN: GCM188R71H473KA55D; MFT: Murata Electronics North America; TYPE: Surface Mount, MLCC; RATING: 50V
footprint C0603
pins: 1, 2

## GCM188R72A103KA37D
designator C?  value 10000pF  (hidden comment: *)
CAP CER 10000PF 100V X7R 0603; MPN: GCM188R72A103KA37D; MFT: Murata Electronics North America; TYPE: Surface Mount, MLCC; RATING: 100V
footprint C0603
pins: 1, 2

## GCM2195C1H103JA16D
designator C?  value 0.01uF  (hidden comment: *)
CAP CER 10000PF 50V NP0 0805; MPN: GCM2195C1H103JA16D; MFT: Murata Electronics North America; RATING: ±5%, 50V; TYPE: Surface Mount, MLCC
footprint C0805
pins: 1, 2

## GJM0335C1ER80BB01D
designator C?  value 0.8pF  (hidden comment: *)
CAP CER 0.8PF 25V C0G/NP0 0201; MPN: GJM0335C1ER80BB01D; MFT: Murata Electronics North America; TYPE: SMD; LOAD: *; RATING: 25V
footprint C0201
pins: 1, 2

## GJM1555C1H1R0BB01D
designator C?  value 1pF  (hidden comment: *)
CAP CER 1PF 50V NP0 0402; MPN: GJM1555C1H1R0BB01D; MFT: Murata Electronics North America; TYPE: Surface Mount, MLCC; RATING: 50V
footprint C0402
pins: 1, 2

## GMK212B7105KG-T
designator C?  value 1µF  (hidden comment: *)
CAP CER 1UF 35V X7R 0805; MPN: GMK212B7105KG-T; MFT: Taiyo Yuden; LOAD: *; RATING: 35V; TYPE: *
footprint C0805
pins: 1, 2

## GMK316AB7106KL-TR
designator C?  value 10µF  (hidden comment: GMK316AB7106KL-TR)
CAP CER 10UF 35V 10% X7R 1206; MFT: Taiyo Yuden; TYPE: Surface Mount, MLCC; MPN: GMK316AB7106KL-TR; RATING: 35V
footprint C1206
pins: 1, 2

## GMK316F106ZL-T
designator C?  value 10uF  (hidden comment: *)
Multilayer Ceramic Capacitors MLCC - SMD/SMT STD 1206 Y5V 35V 10uF +80/-20%; MPN: GMK316F106ZL-T; RATING: 35V Y5V +80/-20%; TYPE: Surface Mount; MFT: Taiyo Yuden
footprint C1206
pins: 1, 2

## GR442QR73D102KW01L
designator C?  value 1000pF  (hidden comment: *)
CAP CER 1000PF 2KV X7R 1808; MPN: GR442QR73D102KW01L; MFT: Murata Electronics North America; RATING: ±10%, 2000V (2kV); TYPE: Surface Mount, MLCC
footprint C1808
pins: 1, 2

## GRJ155R60J106ME11D
designator C?  value 10µF  (hidden comment: *)
CAP CER 10UF 6.3V X5R 0402; MPN: GRJ155R60J106ME11D; MFT: Murata Electronics North America; TYPE: Surface Mount, MLCC; RATING: 6.3V
footprint C0402
pins: 1, 2

## GRJ188R71C474KE11D
designator C?  value 0.47µF  (hidden comment: *)
CAP CER 0.47UF 16V X7R 0603; MPN: GRJ188R71C474KE11D; MFT: Murata Electronics North America; TYPE: SMD; RATING: 16V; LOAD: *
footprint C0603
pins: 1, 2

## GRM21BC8YA106KE11L
designator C?  value 10µF  (hidden comment: *)
CAP CER 10UF 35V X6S 0805; MPN: GRM21BC8YA106KE11L; MFT: Murata Electronics North America; TYPE: SMD; RATING: 35V; LOAD: *
footprint C0805
pins: 1, 2

## GRM21BC71E106ME11L
designator C?  value 10µF  (hidden comment: *)
CAP CER 10UF 25V X7S 0805; MPN: GRM21BC71E106ME11L; MFT: Murata Electronics North America; TYPE: Surface Mount, MLCC; RATING: 25V
footprint C0805
pins: 1, 2

## GRM21BR60J106ME19L
designator C?  value 10µF  (hidden comment: *)
CAP CER 10UF 6.3V X5R 0805; MPN: GRM21BR60J106ME19L; MFT: Murata Electronics North America; RATING: ±20%, 6.3V; TYPE: Surface Mount, MLCC
footprint C0805
pins: 1, 2

## GRM21BR60J226ME39L
designator C?  value 22µF  (hidden comment: *)
CAP CER 22UF 6.3V X5R 0805; MPN: GRM21BR60J226ME39L; MFT: Murata Electronics North America; TYPE: Surface Mount, MLCC; RATING: 6.3V
footprint C0805
pins: 1, 2

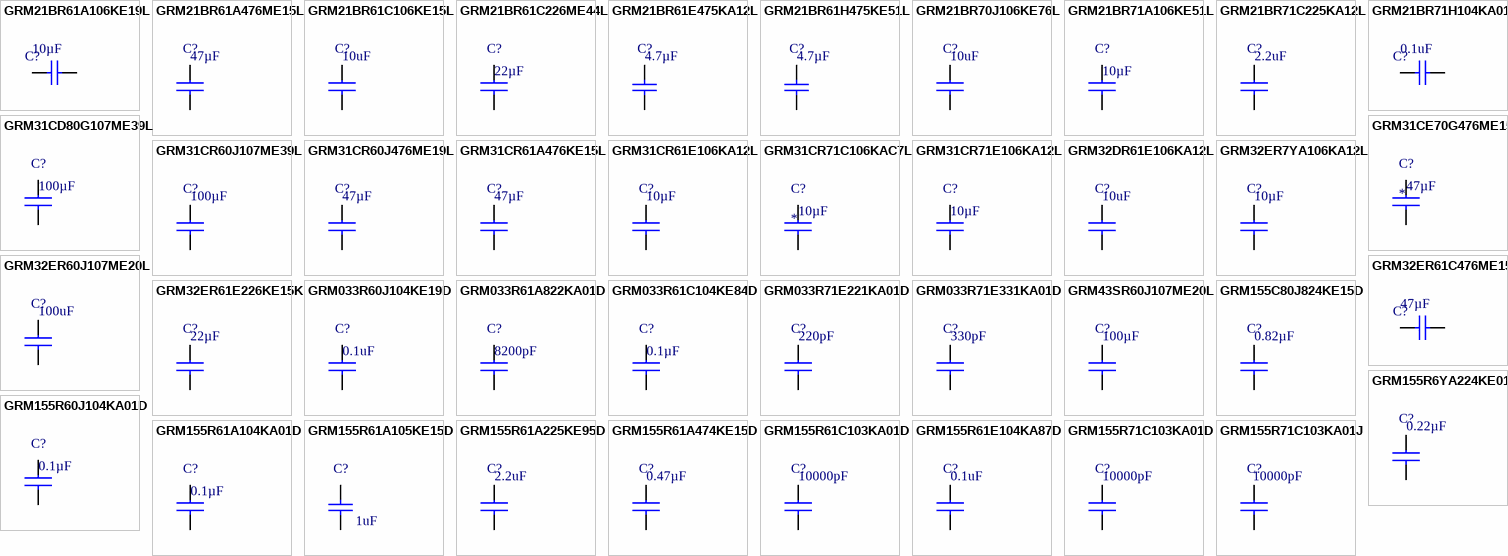
[diagram p5: symbols GRM21BR61A106KE19L to GRM155R71C103KA01J]

## GRM21BR61A106KE19L
designator C?  value 10µF  (hidden comment: *)
CAP CER 10UF 10V 10% X5R 0805; MPN: GRM21BR61A106KE19L; MFT: Murata Electronics North America; TYPE: Surface Mount, MLCC; RATING: 10V
footprint C0805
pins: 1, 2

## GRM21BR61A476ME15L
designator C?  value 47µF  (hidden comment: *)
CAP CER 47UF 10V 20% X5R 0805; MPN: GRM21BR61A476ME15L; MFT: Murata Electronics North America; TYPE: Surface Mount, MLCC; RATING: 10V 20% X5R
footprint C0805
pins: 1, 2

## GRM21BR61C106KE15L
designator C?  value 10uF  (hidden comment: *)
Multilayer Ceramic Capacitors MLCC - SMD/SMT 0805 10uF 16volts X5R 10%; MPN: GRM21BR61C106KE15L; TYPE: Surface Mount; RATING: 16V; MFT: Murata Electronics
footprint C0805
pins: 1, 2

## GRM21BR61C226ME44L
designator C?  value 22µF  (hidden comment: *)
CAP CER 22UF 16V X5R 0805; MPN: GRM21BR61C226ME44L; MFT: Murata Electronics North America; TYPE: SMD; RATING: 16V; LOAD: *
footprint C0805
pins: 1, 2

## GRM21BR61E475KA12L
designator C?  value 4.7µF  (hidden comment: *)
CAP CER 4.7UF 25V 10% X5R 0805; MPN: GRM21BR61E475KA12L; MFT: Murata Electronics North America; TYPE: Surface Mount, MLCC; RATING: 25V 10% X5R
footprint C0805
pins: 1, 2

## GRM21BR61H475KE51L
designator C?  value 4.7µF  (hidden comment: *)
CAP CER 4.7UF 50V X5R 0805; MPN: GRM21BR61H475KE51L; MFT: Murata Electronics North America; TYPE: Surface Mount, MLCC; RATING: 50V
footprint C0805
pins: 1, 2

## GRM21BR70J106KE76L
designator C?  value 10uF  (hidden comment: *)
CAP CER 10UF 6.3V X7R 0805; MPN: GRM21BR70J106KE76L; MFT: Murata Electronics North America; TYPE: SMD; LOAD: *; RATING: 6.3V
footprint C0805
pins: 1, 2

## GRM21BR71A106KE51L
designator C?  value 10µF  (hidden comment: *)
CAP CER 10UF 10V X7R 0805; MPN: GRM21BR71A106KE51L; MFT: Murata Electronics North America; TYPE: SMD; RATING: 10V X7R; LOAD: *
footprint C0805
pins: 1, 2

## GRM21BR71C225KA12L
designator C?  value 2.2uF  (hidden comment: *)
CAP CER 2.2UF 16V X7R 0805; MPN: GRM21BR71C225KA12L; MFT: Murata Electronics North America; TYPE: SMD; LOAD: *; RATING: 16V
footprint C0805
pins: 1, 2

## GRM21BR71H104KA01L
designator C?  value 0.1uF  (hidden comment: *)
CAP CER 0.1UF 50V X7R 0805; MPN: GRM21BR71H104KA01L; MFT: Murata Electronics North America; TYPE: Surface Mount, MLCC; RATING: 50V
footprint C0805
pins: 1, 2

## GRM31CD80G107ME39L
designator C?  value 100µF  (hidden comment: *)
CAP CER 100UF 4V X6T 1206; MPN: GRM31CD80G107ME39L; MFT: Murata Electronics North America; TYPE: SMD; RATING: 4V; LOAD: *
footprint C1206
pins: 1, 2

## GRM31CE70G476ME15L
designator C?  value 47µF
CAP CER 47UF 4V X7U 1206; MPN: GRM31CE70G476ME15L; MFT: Murata Electronics North America; TYPE: SMD; RATING: 4V; LOAD: *
footprint C1206
pins: 1, 2

## GRM31CR60J107ME39L
designator C?  value 100µF  (hidden comment: *)
CAP CER 100UF 6.3V 20% X5R 1206; MPN: GRM31CR60J107ME39L; MFT: Murata Electronics North America; TYPE: Surface Mount; RATING: 6.3V
footprint C1206
pins: 1, 2

## GRM31CR60J476ME19L
designator C?  value 47µF  (hidden comment: *)
CAP CER 47UF 6.3V X5R 1206; MPN: GRM31CR60J476ME19L; MFT: Murata Electronics North America; RATING: ±20%, 6.3V; TYPE: Surface Mount, MLCC
footprint C1206
pins: 1, 2

## GRM31CR61A476KE15L
designator C?  value 47µF  (hidden comment: *)
CAP CER 47UF 10V X5R 1206; MPN: GRM31CR61A476KE15L; MFT: Murata Electronics North America; TYPE: Surface Mount, MLCC; RATING: 10V
footprint C1206
pins: 1, 2

## GRM31CR61E106KA12L
designator C?  value 10µF  (hidden comment: *)
CAP CER 10UF 25V X5R 1206; MPN: GRM31CR61E106KA12L; MFT: Murata Electronics North America; RATING: ±10%, 25V; TYPE: Surface Mount, MLCC
footprint C1206
pins: 1, 2

## GRM31CR71C106KAC7L
designator C?  value 10µF
CAP CER 10UF 16V X7R 1206; MPN: GRM31CR71C106KAC7L; MFT: Murata Electronics North America; TYPE: SMD; RATING: 16V; LOAD: *
footprint C1206
pins: 1, 2

## GRM31CR71E106KA12L
designator C?  value 10µF  (hidden comment: *)
CAP CER 10UF 25V X7R 1206; MPN: GRM31CR71E106KA12L; MFT: Murata Electronics North America; TYPE: SMD; RATING: 25V; LOAD: *
footprint C1206
pins: 1, 2

## GRM32DR61E106KA12L
designator C?  value 10uF  (hidden comment: *)
CAP CER 10UF 25V X5R 1210; MPN: GRM32DR61E106KA12L; MFT: Murata Electronics North America; TYPE: SMD; LOAD: *; RATING: 25V
footprint C1210
pins: 1, 2

## GRM32ER7YA106KA12L
designator C?  value 10µF  (hidden comment: *)
CAP CER 10UF 35V X7R 1210; MPN: GRM32ER7YA106KA12L; MFT: Murata Electronics North America; TYPE: Surface Mount, MLCC; RATING: 35V
footprint C1210
pins: 1, 2

## GRM32ER60J107ME20L
designator C?  value 100uF  (hidden comment: *)
CAP CER 100UF 6.3V X5R 1210; MPN: GRM32ER60J107ME20L; MFT: Murata Electronics North America; TYPE: SMD; LOAD: *; RATING: 6.3V
footprint C1210
pins: 1, 2

## GRM32ER61C476ME15K
designator C?  value 47µF  (hidden comment: *)
CAP CER 47UF 16V 20% X5R 1210; MPN: GRM32ER61C476ME15K; MFT: Murata Electronics North America; TYPE: Surface Mount, MLCC; RATING: 16V
footprint C1210
pins: 1, 2

## GRM32ER61E226KE15K
designator C?  value 22µF  (hidden comment: *)
CAP CER 22UF 25V X5R 1210; MPN: GRM32ER61E226KE15K; MFT: Murata Electronics North America; RATING: ±10%, 25V; TYPE: Surface Mount, MLCC
footprint C1210
pins: 1, 2

## GRM033R60J104KE19D
designator C?  value 0.1uF  (hidden comment: *)
CAP CER 0.1UF 6.3V X5R 0201; MPN: GRM033R60J104KE19D; MFT: Murata Electronics North America; TYPE: SMD; LOAD: *; RATING: 6.3V
footprint C0201
pins: 1, 2

## GRM033R61A822KA01D
designator C?  value 8200pF  (hidden comment: *)
CAP CER 8200PF 10V X5R 0201; MPN: GRM033R61A822KA01D; MFT: Murata Electronics North America; TYPE: SMD; RATING: 10V; LOAD: *
footprint C0201
pins: 1, 2

## GRM033R61C104KE84D
designator C?  value 0.1µF  (hidden comment: *)
CAP CER 0.1UF 16V X5R 0201; MPN: GRM033R61C104KE84D; MFT: Murata Electronics North America; TYPE: SMD; RATING: 16V; LOAD: *
footprint C0201
pins: 1, 2

## GRM033R71E221KA01D
designator C?  value 220pF  (hidden comment: *)
CAP CER 220PF 25V X7R 0201; MPN: GRM033R71E221KA01D; MFT: Murata Electronics North America; LOAD: *; TYPE: *; RATING: *
footprint C0201
pins: 1, 2

## GRM033R71E331KA01D
designator C?  value 330pF  (hidden comment: *)
CAP CER 330PF 25V X7R 0201; MPN: GRM033R71E331KA01D; MFT: Murata Electronics North America; TYPE: SMD; LOAD: *; RATING: 25V
footprint C0201
pins: 1, 2

## GRM43SR60J107ME20L
designator C?  value 100µF  (hidden comment: *)
CAP CER 100UF 6.3V 20% X5R 1812; MPN: GRM43SR60J107ME20L; MFT: Murata Electronics North America; TYPE: Surface Mount; RATING: 6.3V
footprint C1812
pins: 1, 2

## GRM155C80J824KE15D
designator C?  value 0.82µF  (hidden comment: *)
0.82µF 6.3V Ceramic Capacitor X6S 0402 (1005 Metric) 0.039" L x 0.020" W (1.00mm x 0.50mm); MPN: GRM155C80J824KE15D; MFT: Murata; TYPE: SMD; RATING: 6.3V; LOAD: *
footprint C0402
pins: 1, 2